# Altium footprint library CSO-48.PcbLib: 1 footprints
Each footprint in its own frame and in the unit in brackets; x right, y up, seen from the top. Pads: shape width x height; smd on the part's side, far side on the other; paste and mask are expansions set on the pad; w line width, h text height; cw(c..) or ccw(c..) is an arc to the next point about the centre after c.
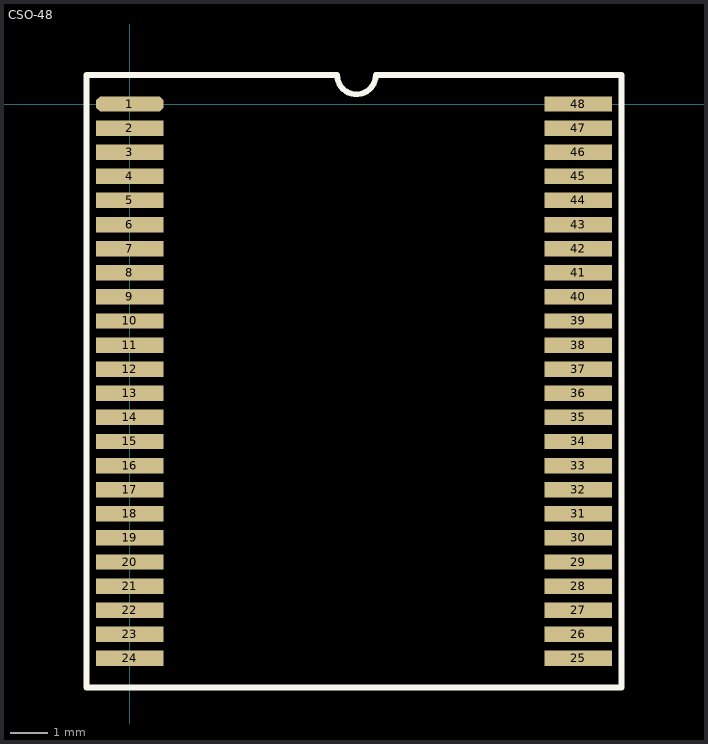
[diagram p0: the footprint, top view; thin cyan lines are the x and y axes]

## CSO-48 [mil]
pads (48):
  oct 70x16 smd: 1(0,0)
  rect 70x16 smd: 2(0,-25) 3(0,-50) 4(0,-75) 5(0,-100) 6(0,-125) 7(0,-150) 8(0,-175) 9(0,-200) 10(0,-225) 11(0,-250) 12(0,-275) 13(0,-300) 14(0,-325) 15(0,-350) 16(0,-375) 17(0,-400) 18(0,-425) 19(0,-450) 20(0,-475) 21(0,-500) 22(0,-525) 23(0,-550) 24(0,-575) 25(465,-575) 26(465,-550) 27(465,-525) 28(465,-500) 29(465,-475) 30(465,-450) 31(465,-425) 32(465,-400) 33(465,-375) 34(465,-350) 35(465,-325) 36(465,-300) 37(465,-275) 38(465,-250) 39(465,-225) 40(465,-200) 41(465,-175) 42(465,-150) 43(465,-125) 44(465,-100) 45(465,-75) 46(465,-50) 47(465,-25) 48(465,0)
TopOverlay:
  lines w6: -45,-605 -45,30 215,30 ccw(c235,30) 255,30 510,30 510,-605 -45,-605